# Altium integrated library SK54B.IntLib: 1 symbol
Pins are listed as number, name and electrical type; pins without a type are passive.

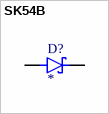
[diagram p0: symbol SK54B]

## SK54B
designator D?
5A, 40V, Schottky Rectifier; MF: Taiwan Semiconductor; MP: SK54B; SnapEDA_Link: https://www.snapeda.com/parts/SK54B/Taiwan+Semiconductor/view-part/?ref=snap; Package: SMB-2 Taiwan Semiconductor; Value: *; Check_prices: https://www.snapeda.com/parts/SK54B/Taiwan+Semiconductor/view-part/?ref=eda
footprint DIO_SK54B
pins: A, C K